# EAGLE library part SN65HVD3082E (library SNx5HVD308xE)
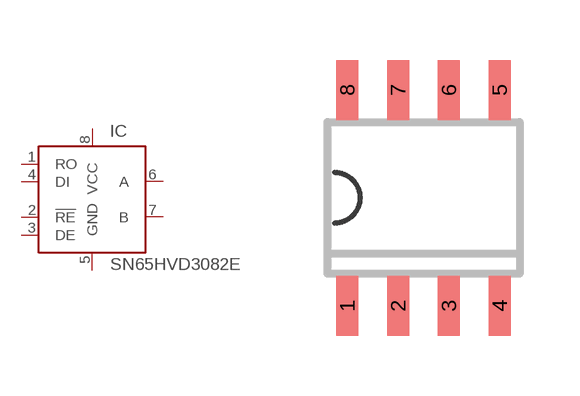
[diagram p0: symbol with the pads of MSOP8; footprint MSOP8]

Designator prefix IC

## SN65HVD3082E  [MSOP8]
1  RO  out
2  !RE  in
3  DE  in
4  DI  in
5  GND  in
6  A
7  B
8  VCC  in

## Footprint MSOP8 (pad centres in mm)
Small Outline IC
smd 0.55 x 1.5: 1 -1.905,-2.7; 2 -0.635,-2.7; 3 0.635,-2.7; 4 1.905,-2.7; 5 1.905,2.7; 6 0.635,2.7; 7 -0.635,2.7; 8 -1.905,2.7